# Altium schematic symbol library SCH - PASSIVES - RESISTOR.Schlib: 1 symbol
Pins are listed as number, name and electrical type; pins without a type are passive.

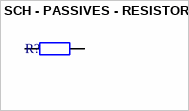
[diagram p0: symbol SCH - PASSIVES - RESISTOR]

## SCH - PASSIVES - RESISTOR
designator R?
footprint RESC1005N (Chip Resistor, Body 1.1x0.5mm, IPC Medium Density)
footprint 0402_Balda
pins: 1, 2